# EAGLE library part L15P (library con-amp-mt)
AMP MT CONNECTOR
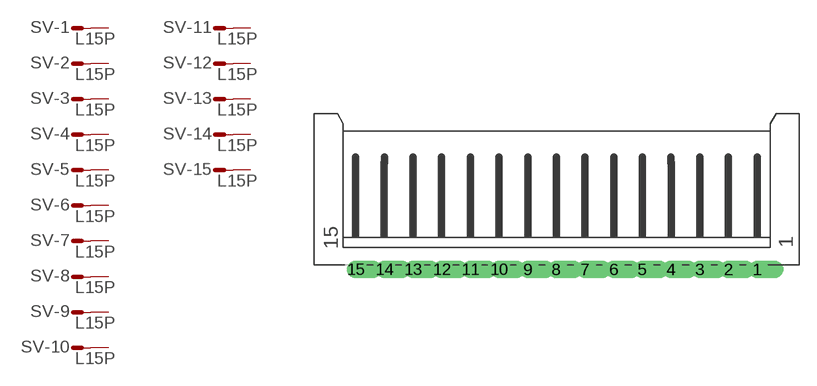
[diagram p9: symbol with the pads of L15P; footprint L15P]

Designator prefix SV; gates -1=M -2=M -3=M -4=M -5=M -6=M -7=M -8=M -9=M -10=M -11=M -12=M -13=M -14=M -15=M

## L15P  [L15P]
1  -1:S  pas
2  -2:S  pas
3  -3:S  pas
4  -4:S  pas
5  -5:S  pas
6  -6:S  pas
7  -7:S  pas
8  -8:S  pas
9  -9:S  pas
10  -10:S  pas
11  -11:S  pas
12  -12:S  pas
13  -13:S  pas
14  -14:S  pas
15  -15:S  pas

## Footprint L15P (pad centres in mm)
AMP MT CONNECTOR
drill 1.016 offset: 1 17.5,-6.25; 2 15,-6.25; 3 12.5,-6.25; 4 10,-6.25; 5 7.5,-6.25; 6 5,-6.25; 7 2.5,-6.25; 8 0,-6.25; 9 -2.5,-6.25; 10 -5,-6.25; 11 -7.5,-6.25; 12 -10,-6.25; 13 -12.5,-6.25; 14 -15,-6.25; 15 -17.5,-6.25